# EAGLE library part MSP432E401Y_FULL_BOOSTER (library MSP432E401Y_Booster)
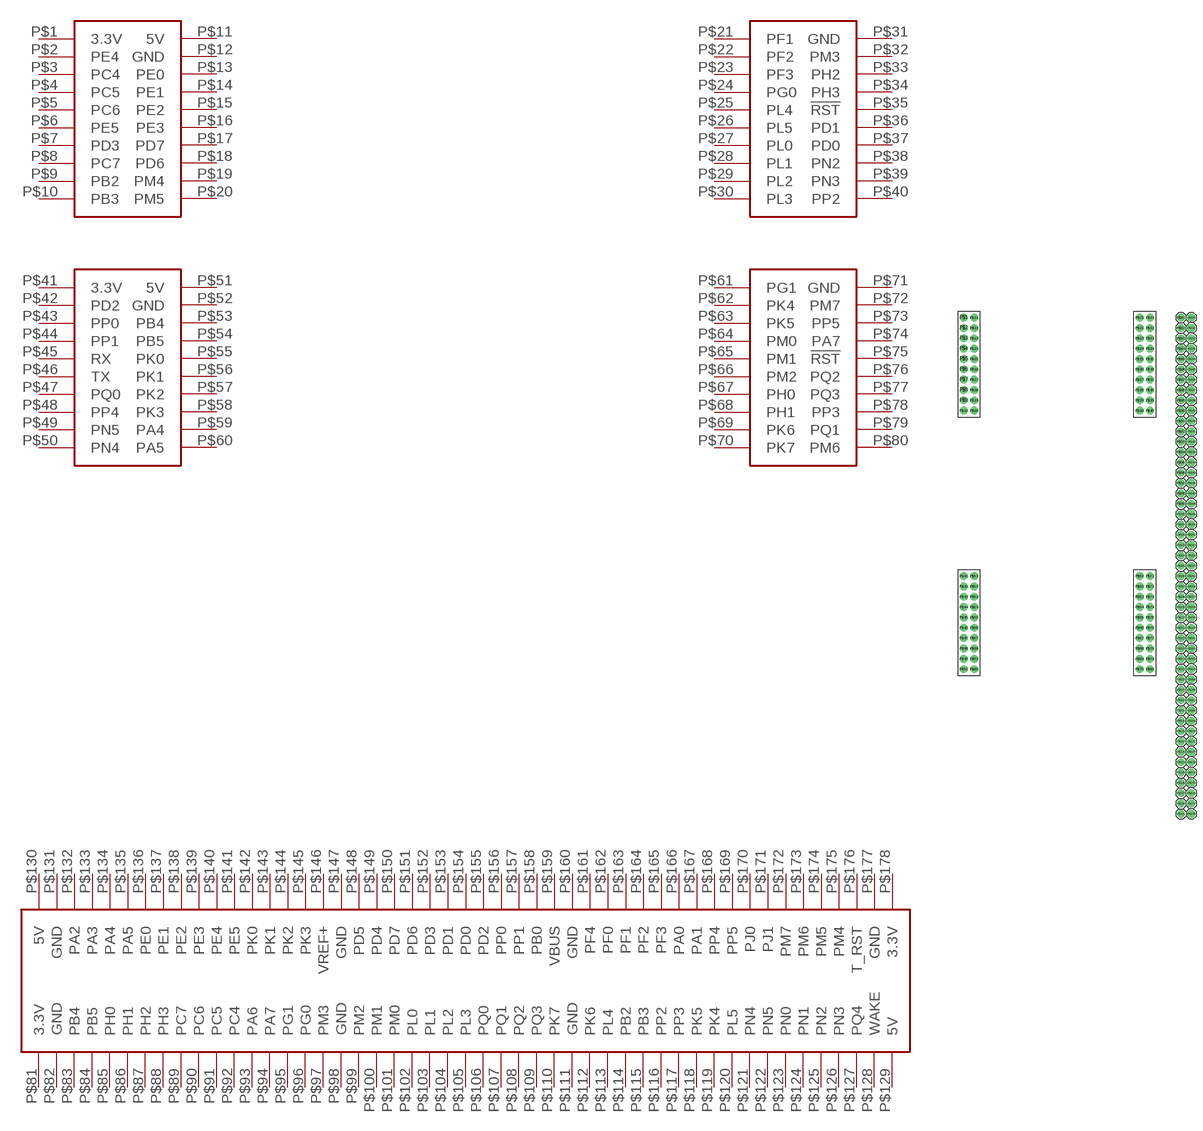
[diagram p1: symbol with the pads of MSP432401Y_FULL_BOOSTER; footprint MSP432401Y_FULL_BOOSTER]

Designator prefix -

## MSP432E401Y_FULL_BOOSTER  [MSP432401Y_FULL_BOOSTER]
P$1  3.3V
P$2  PE4
P$3  PC4
P$4  PC5
P$5  PC6
P$6  PE5
P$7  PD3
P$8  PC7
P$9  PB2
P$10  PB3
P$11  5V
P$12  GND
P$13  PE0
P$14  PE1
P$15  PE2
P$16  PE3
P$17  PD7
P$18  PD6
P$19  PM4
P$20  PM5
P$21  PF1
P$22  PF2
P$23  PF3
P$24  PG0
P$25  PL4
P$26  PL5
P$27  PL0
P$28  PL1
P$29  PL2
P$30  PL3
P$31  GND
P$32  PM3
P$33  PH2
P$34  PH3
P$35  !RST
P$36  PD1
P$37  PD0
P$38  PN2
P$39  PN3
P$40  PP2
P$41  3.3V
P$42  PD2
P$43  PP0
P$44  PP1
P$45  RX
P$46  TX
P$47  PQ0
P$48  PP4
P$49  PN5
P$50  PN4
P$51  5V
P$52  GND
P$53  PB4
P$54  PB5
P$55  PK0
P$56  PK1
P$57  PK2
P$58  PK3
P$59  PA4
P$60  PA5
P$61  PG1
P$62  PK4
P$63  PK5
P$64  PM0
P$65  PM1
P$66  PM2
P$67  PH0
P$68  PH1
P$69  PK6
P$70  PK7
P$71  GND
P$72  PM7
P$73  PP5
P$74  PA7
P$75  !RST
P$76  PQ2
P$77  PQ3
P$78  PP3
P$79  PQ1
P$80  PM6
P$81  3.3V
P$82  GND
P$83  PB4
P$84  PB5
P$85  PH0
P$86  PH1
P$87  PH2
P$88  PH3
P$89  PC7
P$90  PC6
P$91  PC5
P$92  PC4
P$93  PA6
P$94  PA7
P$95  PG1
P$96  PG0
P$97  PM3
P$98  GND
P$99  PM2
P$100  PM1
P$101  PM0
P$102  PL0
P$103  PL1
P$104  PL2
P$105  PL3
P$106  PQ0
P$107  PQ1
P$108  PQ2
P$109  PQ3
P$110  PK7
P$111  GND
P$112  PK6
P$113  PL4
P$114  PB2
P$115  PB3
P$116  PP2
P$117  PP3
P$118  PK5
P$119  PK4
P$120  PL5
P$121  PN4
P$122  PN5
P$123  PN0
P$124  PN1
P$125  PN2
P$126  PN3
P$127  PQ4
P$128  WAKE
P$129  5V
P$130  5V
P$131  GND
P$132  PA2
P$133  PA3
P$134  PA4
P$135  PA5
P$136  PE0
P$137  PE1
P$138  PE2
P$139  PE3
P$140  PE4
P$141  PE5
P$142  PK0
P$143  PK1
P$144  PK2
P$145  PK3
P$146  VREF+
P$147  GND
P$148  PD5
P$149  PD4
P$150  PD7
P$151  PD6
P$152  PD3
P$153  PD1
P$154  PD0
P$155  PD2
P$156  PP0
P$157  PP1
P$158  PB0
P$159  VBUS
P$160  GND
P$161  PF4
P$162  PF0
P$163  PF1
P$164  PF2
P$165  PF3
P$166  PA0
P$167  PA1
P$168  PP4
P$169  PP5
P$170  PJ0
P$171  PJ1
P$172  PM7
P$173  PM6
P$174  PM5
P$175  PM4
P$176  T_RST
P$177  GND
P$178  3.3V

## Footprint MSP432401Y_FULL_BOOSTER (pad centres in mm)
drill 1.016 pad 1.93: P$1 0,0; P$2 0,-2.54; P$3 0,-5.08; P$4 0,-7.62; P$5 0,-10.16; P$6 0,-12.7; P$7 0,-15.24; P$8 0,-17.78; P$9 0,-20.32; P$10 0,-22.86; P$11 2.54,0; P$12 2.54,-2.54; P$13 2.54,-5.08; P$14 2.54,-7.62; P$15 2.54,-10.16; P$16 2.54,-12.7; P$17 2.54,-15.24; P$18 2.54,-17.78; P$19 2.54,-20.32; P$20 2.54,-22.86; P$21 43.18,0; P$22 43.18,-2.54; P$23 43.18,-5.08; P$24 43.18,-7.62; P$25 43.18,-10.16; P$26 43.18,-12.7; P$27 43.18,-15.24; P$28 43.18,-17.78; P$29 43.18,-20.32; P$30 43.18,-22.86; P$31 45.72,0; P$32 45.72,-2.54; P$33 45.72,-5.08; P$34 45.72,-7.62; P$35 45.72,-10.16; P$36 45.72,-12.7; P$37 45.72,-15.24; P$38 45.72,-17.78; P$39 45.72,-20.32; P$40 45.72,-22.86; P$41 0,-63.5; P$42 0,-66.04; P$43 0,-68.58; P$44 0,-71.12; P$45 0,-73.66; P$46 0,-76.2; P$47 0,-78.74; P$48 0,-81.28; P$49 0,-83.82; P$50 0,-86.36; P$51 2.54,-63.5; P$52 2.54,-66.04; P$53 2.54,-68.58; P$54 2.54,-71.12; P$55 2.54,-73.66; P$56 2.54,-76.2; P$57 2.54,-78.74; P$58 2.54,-81.28; P$59 2.54,-83.82; P$60 2.54,-86.36; P$61 43.18,-63.5; P$62 43.18,-66.04; P$63 43.18,-68.58; P$64 43.18,-71.12; P$65 43.18,-73.66; P$66 43.18,-76.2; P$67 43.18,-78.74; P$68 43.18,-81.28; P$69 43.18,-83.82; P$70 43.18,-86.36; P$71 45.72,-63.5; P$72 45.72,-66.04; P$73 45.72,-68.58; P$74 45.72,-71.12; P$75 45.72,-73.66; P$76 45.72,-76.2; P$77 45.72,-78.74; P$78 45.72,-81.28; P$79 45.72,-83.82; P$80 45.72,-86.36; P$81 53.34,0; P$82 53.34,-2.54; P$83 53.34,-5.08; P$84 53.34,-7.62; P$85 53.34,-10.16; P$86 53.34,-12.7; P$87 53.34,-15.24; P$88 53.34,-17.78; P$89 53.34,-20.32; P$90 53.34,-22.86; P$91 53.34,-25.4; P$92 53.34,-27.94; P$93 53.34,-30.48; P$94 53.34,-33.02; P$95 53.34,-35.56; P$96 53.34,-38.1; P$97 53.34,-40.64; P$98 53.34,-43.18; P$99 53.34,-45.72; P$100 53.34,-48.26; P$101 53.34,-50.8; P$102 53.34,-53.34; P$103 53.34,-55.88; P$104 53.34,-58.42; P$105 53.34,-60.96; P$106 53.34,-63.5; P$107 53.34,-66.04; P$108 53.34,-68.58; P$109 53.34,-71.12; P$110 53.34,-73.66; P$111 53.34,-76.2; P$112 53.34,-78.74; P$113 53.34,-81.28; P$114 53.34,-83.82; P$115 53.34,-86.36; P$116 53.34,-88.9; P$117 53.34,-91.44; P$118 53.34,-93.98; P$119 53.34,-96.52; P$120 53.34,-99.06; P$121 53.34,-101.6; P$122 53.34,-104.14; P$123 53.34,-106.68; P$124 53.34,-109.22; P$125 53.34,-111.76; P$126 53.34,-114.3; P$127 53.34,-116.84; P$128 53.34,-119.38; P$129 53.34,-121.92; P$130 55.88,0; P$131 55.88,-2.54; P$132 55.88,-5.08; P$133 55.88,-7.62; P$134 55.88,-10.16; P$135 55.88,-12.7; P$136 55.88,-15.24; P$137 55.88,-17.78; P$138 55.88,-20.32; P$139 55.88,-22.86; P$140 55.88,-25.4; P$141 55.88,-27.94; P$142 55.88,-30.48; P$143 55.88,-33.02; P$144 55.88,-35.56; P$145 55.88,-38.1; P$146 55.88,-40.64; P$147 55.88,-43.18; P$148 55.88,-45.72; P$149 55.88,-48.26; P$150 55.88,-50.8; P$151 55.88,-53.34; P$152 55.88,-55.88; P$153 55.88,-58.42; P$154 55.88,-60.96; P$155 55.88,-63.5; P$156 55.88,-66.04; P$157 55.88,-68.58; P$158 55.88,-71.12; P$159 55.88,-73.66; P$160 55.88,-76.2; P$161 55.88,-78.74; P$162 55.88,-81.28; P$163 55.88,-83.82; P$164 55.88,-86.36; P$165 55.88,-88.9; P$166 55.88,-91.44; P$167 55.88,-93.98; P$168 55.88,-96.52; P$169 55.88,-99.06; P$170 55.88,-101.6; P$171 55.88,-104.14; P$172 55.88,-106.68; P$173 55.88,-109.22; P$174 55.88,-111.76; P$175 55.88,-114.3; P$176 55.88,-116.84; P$177 55.88,-119.38; P$178 55.88,-121.92